# EAGLE library part MODULAR_ROBOTICS_IR2213 (library micro_mirror3)
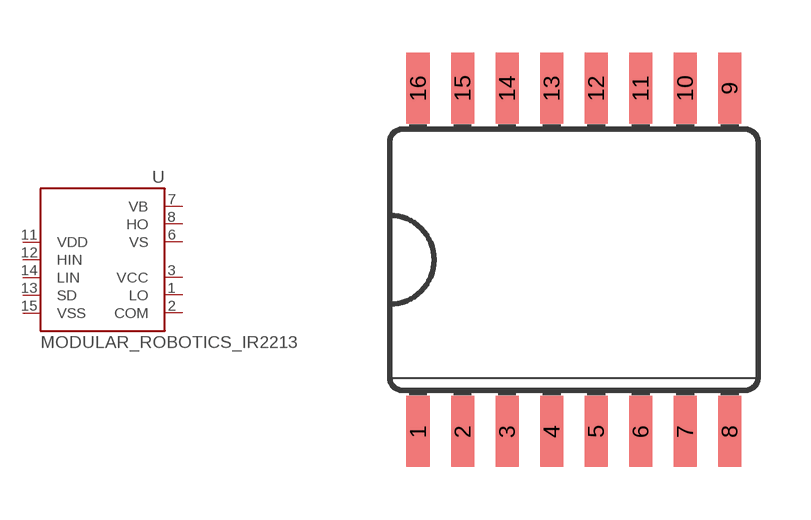
[diagram p5: symbol with the pads of MODULAR_ROBOTICS_SO16L; footprint MODULAR_ROBOTICS_SO16L]

Designator prefix -

## MODULAR_ROBOTICS_IR2213  [MODULAR_ROBOTICS_SO16L]
1  LO
2  COM
3  VCC
6  VS
7  VB
8  HO
11  VDD
12  HIN
13  SD
14  LIN
15  VSS

## Footprint MODULAR_ROBOTICS_SO16L (pad centres in mm)
Small Outline Package
smd 0.66 x 2.032: 1 -4.445,-4.902; 2 -3.175,-4.902; 3 -1.905,-4.902; 4 -0.635,-4.902; 5 0.635,-4.902; 6 1.905,-4.902; 7 3.175,-4.902; 8 4.445,-4.902; 9 4.445,4.902; 10 3.175,4.902; 11 1.905,4.902; 12 0.635,4.902; 13 -0.635,4.902; 14 -1.905,4.902; 15 -3.175,4.902; 16 -4.445,4.902